# Altium footprint library AVR SMD SOLDERING.PcbLib: 26 footprints (part 1 of 2)
Each footprint in its own frame and in the unit in brackets; x right, y up, seen from the top. Pads: shape width x height; smd on the part's side, far side on the other; paste and mask are expansions set on the pad; w line width, h text height; cw(c..) or ccw(c..) is an arc to the next point about the centre after c.
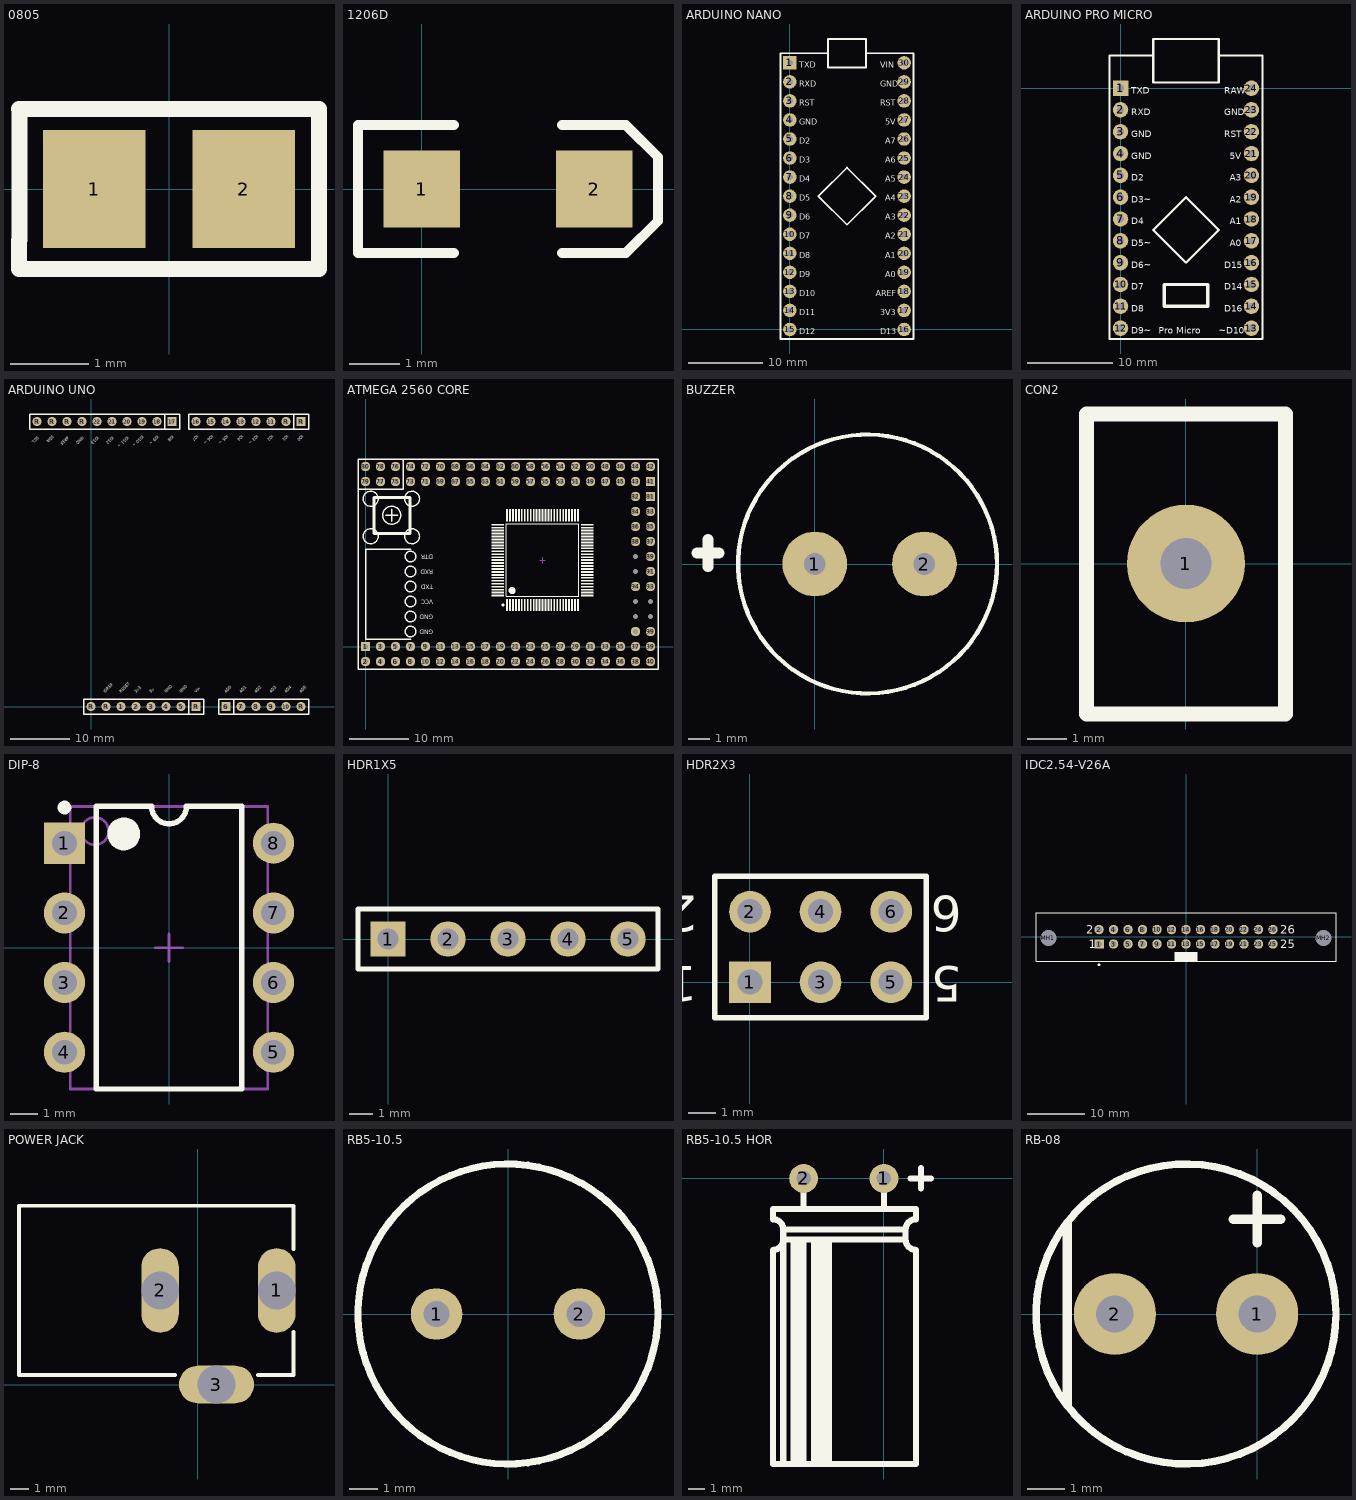
[diagram p0: the footprints below, top view; thin cyan lines are the x and y axes]

## 0805 [mm] "Chip Capacitor; Body 2.0 x 1.2 mm (LxW typ)"
height 1.3
pads (2):
  rect 1.3x1.5 smd: 1(-0.95,0) 2(0.95,0)
Top Overlay:
  lines w0.2: -1.9,-0.65 -1.9,0.65
  lines w0.203: -1.9,-0.65 -1.905,-0.655 -1.905,-1.016 1.905,-1.016 1.905,1.016 -1.905,1.016 -1.9,1.011 -1.9,0.65

## 1206D [mil] "1206 DIODE (LED)"
pads (2):
  rect 60x60 smd: 1(0,0) 2(135,0)
Top Overlay:
  lines w7.87: 25,-50 -50,-50 -50,50 25,50 ; 110,-50 160,-50 185,-25 185,25 160,50 110,50

## ARDUINO NANO [mm]
pads (30):
  rect 1.8x1.8 hole 0.8: 1(0,35.56)
  round 1.8 hole 0.8: 2(0,33.02) 3(0,30.48) 4(0,27.94) 5(0,25.4) 6(0,22.86) 7(0,20.32) 8(0,17.78) 9(0,15.24) 10(0,12.7) 11(0,10.16) 12(0,7.62) 13(0,5.08) 14(0,2.54) 15(0,0) 16(15.24,0) 17(15.24,2.54) 18(15.24,5.08) 19(15.24,7.62) 20(15.24,10.16) 21(15.24,12.7) 22(15.24,15.24) 23(15.24,17.78) 24(15.24,20.32) 25(15.24,22.86) 26(15.24,25.4) 27(15.24,27.94) 28(15.24,30.48) 29(15.24,33.02) 30(15.24,35.56)
Top Overlay:
  lines w0.254: 5.08,36.83 -1.27,36.83 -1.27,-1.27 16.51,-1.27 16.51,36.83 10.16,36.83 ; 3.81,17.78 7.62,13.97 11.43,17.78 7.62,21.59 3.81,17.78 ; 5.08,34.925 10.16,34.925 10.16,38.735 5.08,38.735 5.08,34.925
  text "VIN" at 12.065,34.925 h0.76
  text "GND" at 12.065,32.385 h0.76
  text "RST" at 12.065,29.845 h0.76
  text "5V" at 12.7,27.305 h0.76
  text "A7" at 12.7,24.765 h0.76
  text "A6" at 12.7,22.225 h0.76
  text "A5" at 12.7,19.685 h0.76
  text "A4" at 12.7,17.145 h0.76
  text "A3" at 12.7,14.605 h0.76
  text "A2" at 12.7,12.065 h0.76
  text "A1" at 12.7,9.525 h0.76
  text "A0" at 12.7,6.985 h0.76
  text "AREF" at 11.43,4.445 h0.76
  text "3V3" at 12.065,1.905 h0.76
  text "D13" at 12.065,-0.635 h0.76
  text "D12" at 1.27,-0.635 h0.76
  text "D11" at 1.27,1.905 h0.76
  text "D10" at 1.27,4.445 h0.76
  text "D9" at 1.27,6.985 h0.76
  text "D8" at 1.27,9.525 h0.76
  text "D7" at 1.27,12.065 h0.76
  text "D6" at 1.27,14.605 h0.76
  text "D5" at 1.27,17.145 h0.76
  text "D4" at 1.27,19.685 h0.76
  text "D3" at 1.27,22.225 h0.76
  text "D2" at 1.27,24.765 h0.76
  text "GND" at 1.27,27.305 h0.76
  text "RST" at 1.27,29.845 h0.76
  text "RXD" at 1.27,32.385 h0.76
  text "TXD" at 1.27,34.925 h0.76

## ARDUINO PRO MICRO [mm]
pads (24):
  rect 1.8x1.8 hole 0.8: 1(0,0)
  round 1.8 hole 0.8: 2(0,-2.54) 3(0,-5.08) 4(0,-7.62) 5(0,-10.16) 6(0,-12.7) 7(0,-15.24) 8(0,-17.78) 9(0,-20.32) 10(0,-22.86) 11(0,-25.4) 12(0,-27.94) 13(15.24,-27.94) 14(15.24,-25.4) 15(15.24,-22.86) 16(15.24,-20.32) 17(15.24,-17.78) 18(15.24,-15.24) 19(15.24,-12.7) 20(15.24,-10.16) 21(15.24,-7.62) 22(15.24,-5.08) 23(15.24,-2.54) 24(15.24,0)
Top Overlay:
  lines w0.254: 3.81,3.81 -1.27,3.81 -1.27,-29.21 16.51,-29.21 16.51,3.81 11.43,3.81 ; 3.81,-16.51 7.62,-12.7 11.43,-16.51 7.62,-20.32 3.81,-16.51 ; 3.81,0.635 3.81,5.715 11.43,5.715 11.43,0.635 3.81,0.635
  lines w0.381: 5.08,-25.4 10.16,-25.4 10.16,-22.86 5.08,-22.86 5.08,-25.4
  text "GND" at 1.27,-8.255 h0.76
  text "TXD" at 1.27,-0.635 h0.76
  text "RXD" at 1.27,-3.175 h0.76
  text "GND" at 1.27,-5.715 h0.76
  text "D2" at 1.27,-10.795 h0.76
  text "D3~" at 1.27,-13.335 h0.76
  text "D4" at 1.27,-15.875 h0.76
  text "D5~" at 1.27,-18.415 h0.76
  text "D6~" at 1.27,-20.955 h0.76
  text "D7" at 1.27,-23.495 h0.76
  text "D8" at 1.27,-26.035 h0.76
  text "D9~" at 1.27,-28.575 h0.76
  text "~D10" at 11.43,-28.575 h0.76
  text "D16" at 12.065,-26.035 h0.76
  text "D14" at 12.065,-23.495 h0.76
  text "D15" at 12.065,-20.955 h0.76
  text "A0" at 12.7,-18.415 h0.76
  text "A1" at 12.7,-15.875 h0.76
  text "A2" at 12.7,-13.335 h0.76
  text "A3" at 12.7,-10.795 h0.76
  text "5V" at 12.7,-8.255 h0.76
  text "RST" at 12.065,-5.715 h0.76
  text "GND" at 12.065,-3.175 h0.76
  text "RAW" at 12.065,-0.635 h0.76
  text "Pro Micro" at 4.445,-28.575 h0.76

## ARDUINO UNO [mil]
pads (32):
  round 60 hole 30: 1(200,0) 2(300,0) 3(400,0) 4(500,0) 5(600,0) 7(1000,0) 8(1100,0) 9(1200,0) 10(1300,0) 11(1200,1900) 12(1100,1900) 13(1000,1900) 14(900,1900) 15(800,1900) 16(700,1900) 18(440,1900) 19(340,1900) 20(240,1900) 21(140,1900) 22(40,1900) R(-360,1900) R(-260,1900) R(-160,1900) R(-60,1900) R(0,0) R(100,0) R(1300,1900) R(1400,0)
  rect 60x60 hole 30: 6(900,0) 17(540,1900) R(700,0) R(1400,1900)
Top Overlay:
  lines w10: 650,-50 650,50 ; 1350,1850 1350,1950 ; 490,1850 590,1850 590,1950 490,1950 ; 490,1850 490,1950 ; 490,1850 -410,1850 -410,1950 490,1950 ; 950,-50 1450,-50 1450,50 950,50 ; 950,-50 950,50 ; 950,-50 850,-50 850,0 850,50 950,50 ; -50,-50 750,-50 750,50 -50,50 -50,-50 ; 650,1850 1450,1850 1450,1950 650,1950 650,1850
  text "SCL" at -360,1802.93 h20
  text "SDA" at -260,1807.93 h20
  text "IOREF" at 95,87.07 h20
  text "RESET" at 200,87.07 h20
  text "3v3" at 300,87.07 h20
  text "5v" at 400,87.07 h20
  text "GND" at 500,87.07 h20
  text "GND" at 600,87.07 h20
  text "Vin" at 700,87.07 h20
  text "AD0" at 900,87.07 h20
  text "AD1" at 1000,87.07 h20
  text "AD2" at 1100,87.07 h20
  text "AD3" at 1200,87.07 h20
  text "AD4" at 1300,87.07 h20
  text "AD5" at 1400,87.07 h20
  text "IO0" at 1405,1812.93 h20
  text "IO1" at 1305,1812.93 h20
  text "IO2" at 1205,1812.93 h20
  text "IO3 ~" at 1105,1812.93 h20
  text "IO4" at 1005,1812.93 h20
  text "IO5 ~" at 905,1812.93 h20
  text "IO6 ~" at 805,1812.93 h20
  text "IO7" at 705,1812.93 h20
  text "IO8" at 540,1810 h20
  text "IO9 ~" at 440,1810 h20
  text "IO10 ~" at 340,1810 h20
  text "IO11 ~" at 240,1802.93 h20
  text "IO12" at 140,1802.93 h20
  text "IO13" at 40,1802.93 h20
  text "GND" at -60,1802.93 h20
  text "AREF" at -160,1802.93 h20

## ATMEGA 2560 CORE [mm]
pads (200):
  rect 1.6x1.6 hole 0.9: 1(0,0) 41(48.26,27.94) 81(48.26,25.4)
  rect 0.3x2.1 on Top Overlay: 1(23.972,7.025) 2(24.472,7.025) 3(24.972,7.025) 4(25.472,7.025) 5(25.972,7.025) 6(26.472,7.025) 7(26.972,7.025) 8(27.472,7.025) 9(27.972,7.025) 10(28.472,7.025) 11(28.972,7.025) 12(29.472,7.025) 13(29.972,7.025) 14(30.472,7.025) 15(30.972,7.025) 16(31.472,7.025) 17(31.972,7.025) 18(32.472,7.025) 19(32.972,7.025) 20(33.472,7.025) 21(33.972,7.025) 22(34.472,7.025) 23(34.972,7.025) 24(35.472,7.025) 25(35.972,7.025) 51(35.972,22.225) 52(35.472,22.225) 53(34.972,22.225) 54(34.472,22.225) 55(33.972,22.225) 56(33.472,22.225) 57(32.972,22.225) 58(32.472,22.225) 59(31.972,22.225) 60(31.472,22.225) 61(30.972,22.225) 62(30.472,22.225) 63(29.972,22.225) 64(29.472,22.225) 65(28.972,22.225) 66(28.472,22.225) 67(27.972,22.225) 68(27.472,22.225) 69(26.972,22.225) 70(26.472,22.225) 71(25.972,22.225) 72(25.472,22.225) 73(24.972,22.225) 74(24.472,22.225) 75(23.972,22.225)
  round 1.6 hole 0.9: 2(0,-2.54) 3(2.54,0) 4(2.54,-2.54) 5(5.08,0) 6(5.08,-2.54) 7(7.62,0) 8(7.62,-2.54) 9(10.16,0) 10(10.16,-2.54) 11(12.7,0) 12(12.7,-2.54) 13(15.24,0) 14(15.24,-2.54) 15(17.78,0) 16(17.78,-2.54) 17(20.32,0) 18(20.32,-2.54) 19(22.86,0) 20(22.86,-2.54) 21(25.4,0) 22(25.4,-2.54) 23(27.94,0) 24(27.94,-2.54) 25(30.48,0) 26(30.48,-2.54) 27(33.02,0) 28(33.02,-2.54) 29(35.56,0) 30(35.56,-2.54) 31(38.1,0) 32(38.1,-2.54) 33(40.64,0) 34(40.64,-2.54) 35(43.18,0) 36(43.18,-2.54) 37(45.72,0) 38(45.72,-2.54) 39(48.26,0) 40(48.26,-2.54) 42(48.26,30.48) 43(45.72,27.94) 44(45.72,30.48) 45(43.18,27.94) 46(43.18,30.48) 47(40.64,27.94) 48(40.64,30.48) 49(38.1,27.94) 50(38.1,30.48) 51(35.56,27.94) 52(35.56,30.48) 53(33.02,27.94) 54(33.02,30.48) 55(30.48,27.94) 56(30.48,30.48) 57(27.94,27.94) 58(27.94,30.48) 59(25.4,27.94) 60(25.4,30.48) 61(22.86,27.94) 62(22.86,30.48) 63(20.32,27.94) 64(20.32,30.48) 65(17.78,27.94) 66(17.78,30.48) 67(15.24,27.94) 68(15.24,30.48) 69(12.7,27.94) 70(12.7,30.48) 71(10.16,27.94) 72(10.16,30.48) 73(7.62,27.94) 74(7.62,30.48) 75(5.08,27.94) 76(5.08,30.48) 77(2.54,27.94) 78(2.54,30.48) 79(0,27.94) 80(0,30.48) 82(45.72,25.4) 83(48.26,22.86) 84(45.72,22.86) 85(48.26,20.32) 86(45.72,20.32) 87(48.26,17.78) 88(45.72,17.78) 89(48.26,15.24) 91(48.26,12.7) 93(48.26,10.16) 94(45.72,10.16) 99(48.26,2.54) 100(45.72,2.54)
  rect 2.1x0.3 on Top Overlay: 26(37.572,8.625) 27(37.572,9.125) 28(37.572,9.625) 29(37.572,10.125) 30(37.572,10.625) 31(37.572,11.125) 32(37.572,11.625) 33(37.572,12.125) 34(37.572,12.625) 35(37.572,13.125) 36(37.572,13.625) 37(37.572,14.125) 38(37.572,14.625) 39(37.572,15.125) 40(37.572,15.625) 41(37.572,16.125) 42(37.572,16.625) 43(37.572,17.125) 44(37.572,17.625) 45(37.572,18.125) 46(37.572,18.625) 47(37.572,19.125) 48(37.572,19.625) 49(37.572,20.125) 50(37.572,20.625) 76(22.372,20.625) 77(22.372,20.125) 78(22.372,19.625) 79(22.372,19.125) 80(22.372,18.625) 81(22.372,18.125) 82(22.372,17.625) 83(22.372,17.125) 84(22.372,16.625) 85(22.372,16.125) 86(22.372,15.625) 87(22.372,15.125) 88(22.372,14.625) 89(22.372,14.125) 90(22.372,13.625) 91(22.372,13.125) 92(22.372,12.625) 93(22.372,12.125) 94(22.372,11.625) 95(22.372,11.125) 96(22.372,10.625) 97(22.372,10.125) 98(22.372,9.625) 99(22.372,9.125) 100(22.372,8.625)
  round 0 hole 0.9: 90(45.72,15.24) 92(45.72,12.7) 95(48.26,7.62) 96(45.72,7.62) 97(48.26,5.08) 98(45.72,5.08)
Top Overlay:
  circle w0.25: c23.272,7.025 r0.125
  circle w0.6: c24.822,9.475 r0.3
  circle w0.254: c7.62,2.54 r0.898
  circle w0.254: c7.62,5.08 r0.898
  circle w0.254: c7.62,7.62 r0.898
  circle w0.254: c7.62,10.16 r0.898
  circle w0.254: c7.62,12.7 r0.898
  circle w0.254: c7.62,15.24 r0.898
  circle w0.254: c7.874,18.669 r1.27
  circle w0.254: c7.874,25.019 r1.27
  circle w0.254: c0.889,18.669 r1.27
  circle w0.254: c0.889,25.019 r1.27
  circle w0.254: c4.445,22.225 r1.524
  lines w0.2: 23.822,8.475 36.122,8.475 36.122,20.775 23.822,20.775 23.822,8.475
  lines w0.254: -1.27,26.67 6.35,26.67 6.35,31.75 ; 3.429,22.225 5.461,22.225 ; 4.445,21.209 4.445,23.241 ; 7.62,1.27 0,1.27 0,16.51 7.62,16.51 ; -1.27,-3.81 -1.27,31.75 49.53,31.75 49.53,-3.81 -1.27,-3.81
  lines w0.508: 1.397,19.177 1.397,25.273 7.493,25.273 7.493,19.177 2.413,19.177 1.397,19.177
  text "GND" at 11.43,2.857 h0.76
  text "GND" at 11.43,5.397 h0.76
  text "VCC" at 11.43,7.938 h0.76
  text "TXD" at 11.43,10.477 h0.76
  text "RXD" at 11.43,13.018 h0.76
  text "DTR" at 11.43,15.557 h0.76
Mechanical 15:
  lines w0.1: 29.472,14.625 30.472,14.625 ; 29.972,14.125 29.972,15.125

## BUZZER [mm]
pads (2):
  round 3 hole 1: 1(0,0) 2(5.08,0)
Top Overlay:
  circle w0.2: c2.444,0 r6
  lines w0.508: -5.461,0.508 -4.445,0.508 ; -4.953,-0.127 -4.953,1.143

## CON2 [mm]
pads (1):
  round 3 hole 1.3: 1(0,0)
Top Overlay:
  lines w0.381: -2.54,3.81 -2.539,-3.834 2.541,-3.834 2.54,3.81 0,3.81 -2.54,3.81

## DIP-8 [mm] "DIP; 8 Leads; Row Spacing 7.62 mm; Pitch 2.54 mm"
height 5.08
pads (8):
  rect 1.5x1.5 hole 0.9: 1(-3.81,3.81)
  round 1.5 hole 0.9: 2(-3.81,1.27) 3(-3.81,-1.27) 4(-3.81,-3.81) 5(3.81,-3.81) 6(3.81,-1.27) 7(3.81,1.27) 8(3.81,3.81)
Top Overlay:
  circle w0.6: c-1.65,4.15 r0.3
  circle w0.25: c-3.81,5.11 r0.125
  lines w0.2: -2.65,-5.15 2.65,-5.15 2.65,5.15 0.635,5.15 cw(c0,5.15) -0.635,5.15 -2.65,5.15 -2.65,-5.15
Mechanical 13:
  circle w0.1: c-2.7,4.25 r0.5
  lines w0.1: -3.6,-5.15 3.6,-5.15 3.6,5.15 -3.6,5.15 -3.6,-5.15
Mechanical 15:
  lines w0.1: -0.5,0 0.5,0 ; 0,-0.5 0,0.5
3D body: height 5.08, standoff 0, extent -3.6,-5.15 3.6,5.15

## HDR1X5 [mm] "Connector; Header; 5 Position"
pads (5):
  rect 1.5x1.5 hole 0.9: 1(0,0)
  round 1.5 hole 0.9: 2(2.54,0) 3(5.08,0) 4(7.62,0) 5(10.16,0)
Top Overlay:
  lines w0.2: -1.27,-1.27 -1.27,1.27 11.43,1.27 11.43,-1.27 -1.27,-1.27

## HDR2X3 [mm] "Connector; Header; 3x2 Position"
pads (6):
  rect 1.5x1.5 hole 0.9: 1(0,0)
  round 1.5 hole 0.9: 2(0,2.54) 3(2.54,0) 4(2.54,2.54) 5(5.08,0) 6(5.08,2.54)
Top Overlay:
  lines w0.2: 1.482,-1.27 6.35,-1.27 ; 6.35,-1.27 6.35,3.81 -1.27,3.81 -1.27,-1.27 6.35,-1.27
  text "6" at 7.62,3.111 h1.27
  text "5" at 7.62,0.572 h1.27
  text "2" at -1.905,3.111 h1.27
  text "1" at -1.905,0.572 h1.27

## IDC2.54-V26A [mm] "Connector; IDC, Thru-Hole; 26 Position; Vertical; Pitch 2.54 mm; Body 52.60 x 8.5 x 17.30 mm (LxWxH), Without locking levers"
height 17.3
pads (28):
  rect 1.65x1.65 hole 1: 1(-15.24,-1.27)
  round 1.65 hole 1: 2(-15.24,1.27) 3(-12.7,-1.27) 4(-12.7,1.27) 5(-10.16,-1.27) 6(-10.16,1.27) 7(-7.62,-1.27) 8(-7.62,1.27) 9(-5.08,-1.27) 10(-5.08,1.27) 11(-2.54,-1.27) 12(-2.54,1.27) 13(0,-1.27) 14(0,1.27) 15(2.54,-1.27) 16(2.54,1.27) 17(5.08,-1.27) 18(5.08,1.27) 19(7.62,-1.27) 20(7.62,1.27) 21(10.16,-1.27) 22(10.16,1.27) 23(12.7,-1.27) 24(12.7,1.27) 25(15.24,-1.27) 26(15.24,1.27)
  round 2.5 hole 2.8 unplated: MH1(-24.13,-0.25) MH2(24.13,-0.25)
Top Overlay:
  circle w0.25: c-15.24,-4.9 r0.125
  rectangle: -2.05,-4.256 2.05,-2.706
  lines w0.2: -26.3,-4.25 -26.3,4.25 26.3,4.25 26.3,-4.25 -26.3,-4.25
  text "2" at -17.52,0.52 h1.5
  text "1" at -17.02,-2.02 h1.5
  text "26" at 16.52,0.52 h1.5
  text "25" at 16.52,-2.02 h1.5

## POWER JACK [mm]
pads (3):
  oval 2x4.5 hole 2: 1(4.2,5) 2(-2,5)
  oval 4x2 hole 2: 3(1,0)
Top Overlay:
  lines w0.2: -1.2,0.5 -9.5,0.5 -9.5,9.5 5.1,9.5 5.1,7.2 ; 3.2,0.5 5.1,0.5 5.1,2.8

## RB5-10.5 [mm] "Capacitor (Radial); 2 Leads"
pads (2):
  round 1.8 hole 0.9: 1(-2.5,0) 2(2.5,0)
Top Overlay:
  circle w0.25: c0,0 r5.25

## RB5-10.5 HOR [mm]
pads (2):
  round 1.8 hole 0.9: 1(0,0) 2(-5,0)
Top Overlay:
  lines w0.381: -6.27,-17.78 -6.27,-3.81 ; -5.635,-17.78 -5.635,-3.81 ; -5.318,-17.462 -5.318,-3.81 ; -5,-17.78 -5,-3.81 ; -5,-1.905 -5,0 ; -4.365,-17.78 -4.365,-3.81 ; -4.048,-17.78 -4.048,-3.81 ; -3.73,-17.78 -3.73,-3.81 ; -3.413,-17.78 -3.413,-3.81 ; 0,-1.825 0,0 ; 1.667,0 1.985,0 2.937,0 ; 2.302,-0.635 2.302,0.635 ; -6.27,-3.81 cw(c-6.905,-3.81) -6.905,-4.445 -6.905,-17.78 1.985,-17.78 1.985,-4.445 cw(c1.985,-3.81) 1.35,-3.81 ; -6.27,-3.81 -6.27,-3.175 ; -6.27,-3.81 1.35,-3.81 ; -6.27,-3.175 ccw(c-6.905,-3.175) -6.905,-2.54 -6.905,-1.905 1.985,-1.905 1.985,-2.54 ccw(c1.985,-3.175) 1.35,-3.175 ; -6.27,-3.175 1.35,-3.175 ; 1.35,-3.81 1.35,-3.175

## RB-08 [mm]
pads (2):
  round 2.2 hole 1: 1(0,0) 2(-3.81,0)
Top Overlay:
  circle w0.2: c-1.905,0 r4.016
  lines w0.254: -5.08,-2.413 -5.08,2.413 ; -0.635,2.54 0.635,2.54 ; 0,1.905 0,3.175